# EAGLE library part AR9331-AL1A (library AR9331-AL1A)
AR9331 Highly-Integrated and Cost Effective IEEE 802.11n 1x1 2.4 GHz SoC for AP and Router Platforms
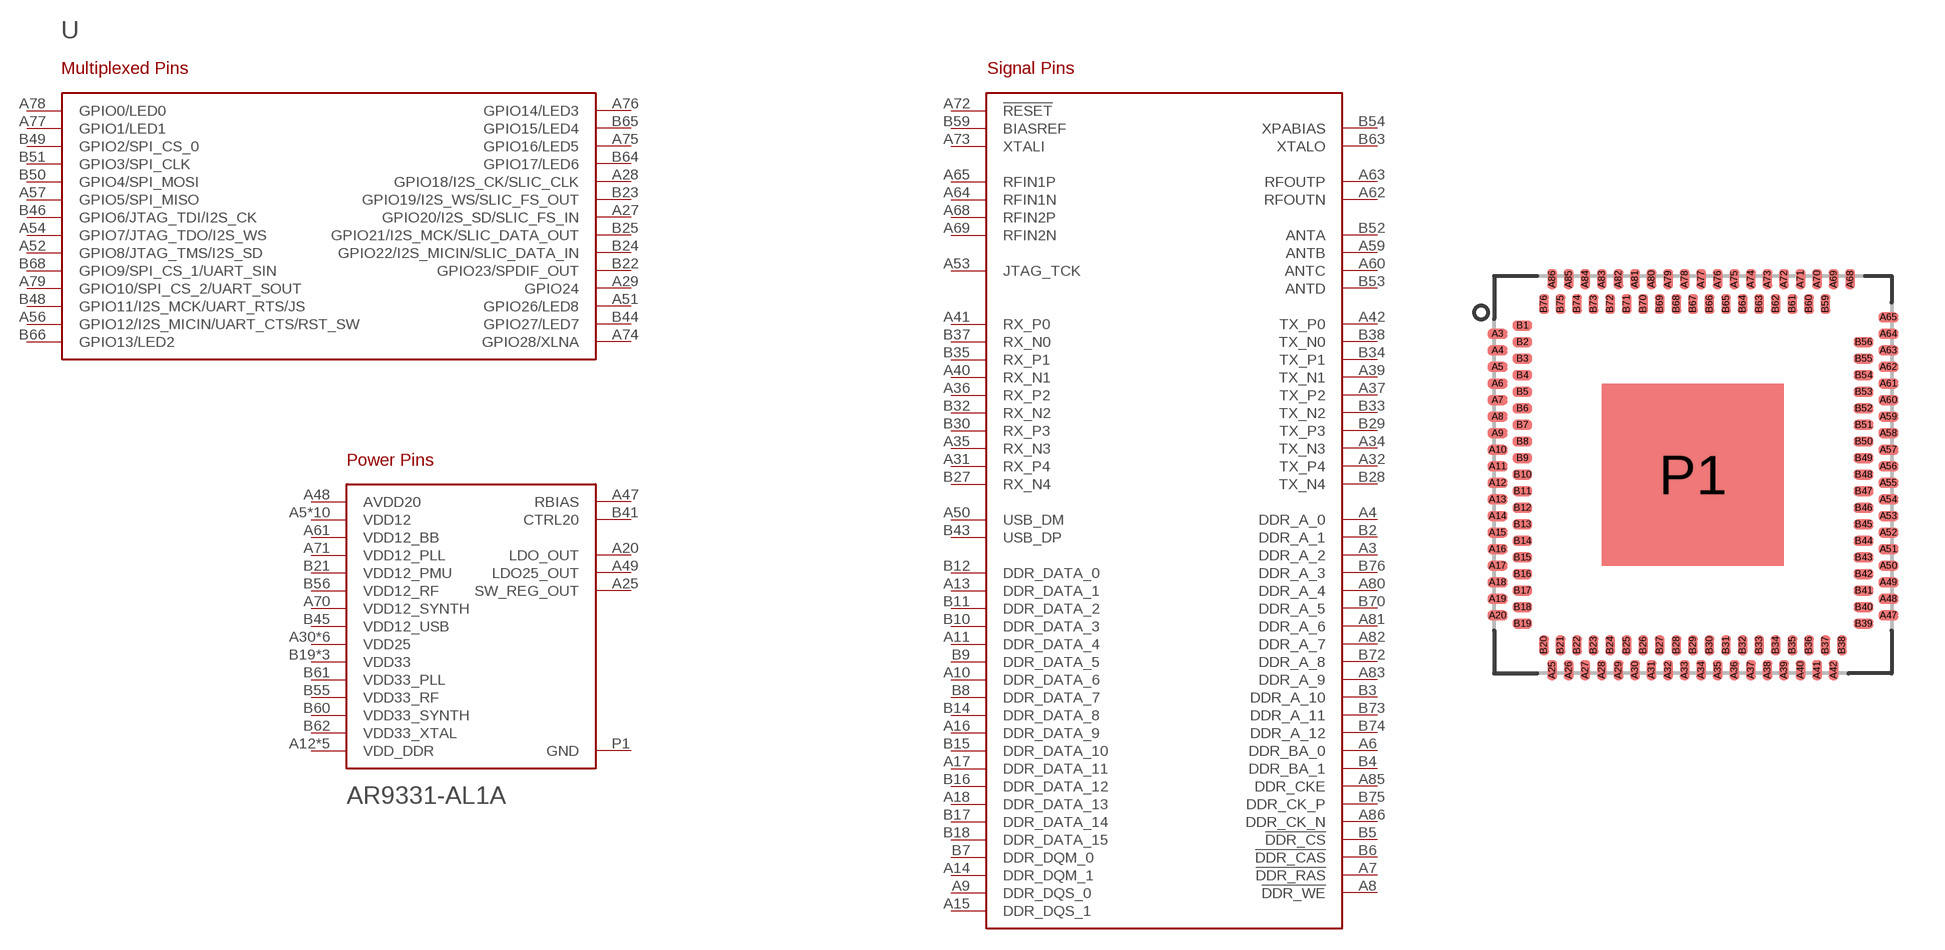
[diagram p0: symbol with the pads of ATHEROS_AR9331-AL1A; footprint ATHEROS_AR9331-AL1A]

Designator prefix U

## AR9331-AL1A (Availability: Unavailable; Description: Module 802.11n 2.472GHz 150000Kbps 148-Pin LPCC EP; MF: Atheros; MP: AR9331-AL1A; Package: None; Price: None)  [ATHEROS_AR9331-AL1A]
A3  DDR_A_2  out
A4  DDR_A_0  out
A5  VDD12  pwr
A6  DDR_BA_0  out
A7  !DDR_RAS  out
A8  !DDR_WE  out
A9  DDR_DQS_0
A10  DDR_DATA_6
A11  DDR_DATA_4
A12  VDD_DDR  pwr
A13  DDR_DATA_1
A14  DDR_DQM_1
A15  DDR_DQS_1
A16  DDR_DATA_9
A17  DDR_DATA_11
A18  DDR_DATA_13
A19  VDD_DDR  pwr
A20  LDO_OUT  out
A25  SW_REG_OUT  out
A26  VDD12  pwr
A27  GPIO20/I2S_SD/SLIC_FS_IN
A28  GPIO18/I2S_CK/SLIC_CLK
A29  GPIO24
A30  VDD25  pwr
A31  RX_P4  in
A32  TX_P4  out
A33  VDD25  pwr
A34  TX_N3  out
A35  RX_N3  in
A36  RX_P2  in
A37  TX_P2  out
A38  VDD25  pwr
A39  TX_N1  out
A40  RX_N1  in
A41  RX_P0  in
A42  TX_P0  out
A47  RBIAS  pas
A48  AVDD20  pwr
A49  LDO25_OUT  out
A50  USB_DM
A51  GPIO26/LED8
A52  GPIO8/JTAG_TMS/I2S_SD
A53  JTAG_TCK  in
A54  GPIO7/JTAG_TDO/I2S_WS
A55  VDD25  pwr
A56  GPIO12/I2S_MICIN/UART_CTS/RST_SW
A57  GPIO5/SPI_MISO
A58  VDD12  pwr
A59  ANTB  out
A60  ANTC  out
A61  VDD12_BB  pwr
A62  RFOUTN  out
A63  RFOUTP  out
A64  RFIN1N  in
A65  RFIN1P  in
A68  RFIN2P  in
A69  RFIN2N  in
A70  VDD12_SYNTH  pwr
A71  VDD12_PLL  pwr
A72  !RESET  in
A73  XTALI  in
A74  GPIO28/XLNA
A75  GPIO16/LED5
A76  GPIO14/LED3
A77  GPIO1/LED1
A78  GPIO0/LED0
A79  GPIO10/SPI_CS_2/UART_SOUT
A80  DDR_A_4  out
A81  DDR_A_6  out
A82  DDR_A_7  out
A83  DDR_A_9  out
A84  VDD_DDR  pwr
A85  DDR_CKE  out
A86  DDR_CK_N  out
B1  VDD_DDR  pwr
B2  DDR_A_1  out
B3  DDR_A_10  out
B4  DDR_BA_1  out
B5  !DDR_CS  out
B6  !DDR_CAS  out
B7  DDR_DQM_0
B8  DDR_DATA_7
B9  DDR_DATA_5
B10  DDR_DATA_3
B11  DDR_DATA_2
B12  DDR_DATA_0
B13  VDD12  pwr
B14  DDR_DATA_8
B15  DDR_DATA_10
B16  DDR_DATA_12
B17  DDR_DATA_14
B18  DDR_DATA_15
B19  VDD33  pwr
B20  VDD33  pwr
B21  VDD12_PMU  pwr
B22  GPIO23/SPDIF_OUT
B23  GPIO19/I2S_WS/SLIC_FS_OUT
B24  GPIO22/I2S_MICIN/SLIC_DATA_IN
B25  GPIO21/I2S_MCK/SLIC_DATA_OUT
B26  VDD12  pwr
B27  RX_N4  in
B28  TX_N4  out
B29  TX_P3  out
B30  RX_P3  in
B31  VDD12  pwr
B32  RX_N2  in
B33  TX_N2  out
B34  TX_P1  out
B35  RX_P1  in
B36  VDD12  pwr
B37  RX_N0  in
B38  TX_N0  out
B39  VDD25  pwr
B40  VDD12  pwr
B41  CTRL20  pas
B42  VDD33  pwr
B43  USB_DP
B44  GPIO27/LED7
B45  VDD12_USB  pwr
B46  GPIO6/JTAG_TDI/I2S_CK
B47  VDD12  pwr
B48  GPIO11/I2S_MCK/UART_RTS/JS
B49  GPIO2/SPI_CS_0
B50  GPIO4/SPI_MOSI
B51  GPIO3/SPI_CLK
B52  ANTA  out
B53  ANTD  out
B54  XPABIAS  out
B55  VDD33_RF  pwr
B56  VDD12_RF  pwr
B59  BIASREF  in
B60  VDD33_SYNTH  pwr
B61  VDD33_PLL  pwr
B62  VDD33_XTAL  pwr
B63  XTALO  out
B64  GPIO17/LED6
B65  GPIO15/LED4
B66  GPIO13/LED2
B67  VDD25  pwr
B68  GPIO9/SPI_CS_1/UART_SIN
B69  VDD12  pwr
B70  DDR_A_5  out
B71  VDD_DDR  pwr
B72  DDR_A_8  out
B73  DDR_A_11  out
B74  DDR_A_12  out
B75  DDR_CK_P  out
B76  DDR_A_3  out
P1  GND  pwr

## Footprint ATHEROS_AR9331-AL1A (pad centres in mm)
smd 0.6 x 0.3: A3 -5.9,4.25; A4 -5.9,3.75; A5 -5.9,3.25; A6 -5.9,2.75; A7 -5.9,2.25; A8 -5.9,1.75; A9 -5.9,1.25; A10 -5.9,0.75; A11 -5.9,0.25; A12 -5.9,-0.25; A13 -5.9,-0.75; A14 -5.9,-1.25; A15 -5.9,-1.75; A16 -5.9,-2.25; A17 -5.9,-2.75; A18 -5.9,-3.25; A19 -5.9,-3.75; A20 -5.9,-4.25; A47 5.9,-4.25; A48 5.9,-3.75; A49 5.9,-3.25; A50 5.9,-2.75; A51 5.9,-2.25; A52 5.9,-1.75; A53 5.9,-1.25; A54 5.9,-0.75; A55 5.9,-0.25; A56 5.9,0.25; A57 5.9,0.75; A58 5.9,1.25; A59 5.9,1.75; A60 5.9,2.25; A61 5.9,2.75; A62 5.9,3.25; A63 5.9,3.75; A64 5.9,4.25; A65 5.9,4.75; B1 -5.15,4.5; B2 -5.15,4; B3 -5.15,3.5; B4 -5.15,3; B5 -5.15,2.5; B6 -5.15,2; B7 -5.15,1.5; B8 -5.15,1; B9 -5.15,0.5; B10 -5.15,0; B11 -5.15,-0.5; B12 -5.15,-1; B13 -5.15,-1.5; B14 -5.15,-2; B15 -5.15,-2.5; B16 -5.15,-3; B17 -5.15,-3.5; B18 -5.15,-4; B19 -5.15,-4.5; B39 5.15,-4.5; B40 5.15,-4; B41 5.15,-3.5; B42 5.15,-3; B43 5.15,-2.5; B44 5.15,-2; B45 5.15,-1.5; B46 5.15,-1; B47 5.15,-0.5; B48 5.15,0; B49 5.15,0.5; B50 5.15,1; B51 5.15,1.5; B52 5.15,2; B53 5.15,2.5; B54 5.15,3; B55 5.15,3.5; B56 5.15,4
smd 0.3 x 0.6: A25 -4.25,-5.9; A26 -3.75,-5.9; A27 -3.25,-5.9; A28 -2.75,-5.9; A29 -2.25,-5.9; A30 -1.75,-5.9; A31 -1.25,-5.9; A32 -0.75,-5.9; A33 -0.25,-5.9; A34 0.25,-5.9; A35 0.75,-5.9; A36 1.25,-5.9; A37 1.75,-5.9; A38 2.25,-5.9; A39 2.75,-5.9; A40 3.25,-5.9; A41 3.75,-5.9; A42 4.25,-5.9; A68 4.75,5.9; A69 4.25,5.9; A70 3.75,5.9; A71 3.25,5.9; A72 2.75,5.9; A73 2.25,5.9; A74 1.75,5.9; A75 1.25,5.9; A76 0.75,5.9; A77 0.25,5.9; A78 -0.25,5.9; A79 -0.75,5.9; A80 -1.25,5.9; A81 -1.75,5.9; A82 -2.25,5.9; A83 -2.75,5.9; A84 -3.25,5.9; A85 -3.75,5.9; A86 -4.25,5.9; B20 -4.5,-5.15; B21 -4,-5.15; B22 -3.5,-5.15; B23 -3,-5.15; B24 -2.5,-5.15; B25 -2,-5.15; B26 -1.5,-5.15; B27 -1,-5.15; B28 -0.5,-5.15; B29 0,-5.15; B30 0.5,-5.15; B31 1,-5.15; B32 1.5,-5.15; B33 2,-5.15; B34 2.5,-5.15; B35 3,-5.15; B36 3.5,-5.15; B37 4,-5.15; B38 4.5,-5.15; B59 4,5.15; B60 3.5,5.15; B61 3,5.15; B62 2.5,5.15; B63 2,5.15; B64 1.5,5.15; B65 1,5.15; B66 0.5,5.15; B67 0,5.15; B68 -0.5,5.15; B69 -1,5.15; B70 -1.5,5.15; B71 -2,5.15; B72 -2.5,5.15; B73 -3,5.15; B74 -3.5,5.15; B75 -4,5.15; B76 -4.5,5.15
smd 5.5 x 5.5: P1 0,0